# EAGLE library part TDA7269A (library joep-custom)
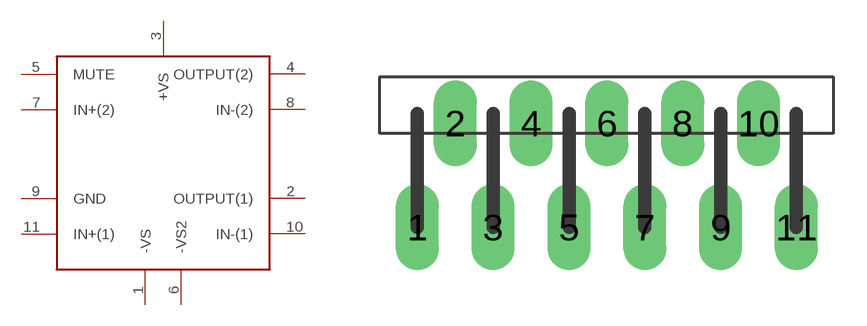
[diagram p6: symbol with the pads of MULTIWATT_11; footprint MULTIWATT_11]

Designator prefix -

## TDA7269A  [MULTIWATT_11]
1  -VS
2  OUTPUT(1)
3  +VS
4  OUTPUT(2)
5  MUTE
6  -VS2
7  IN+(2)
8  IN-(2)
9  GND
10  IN-(1)
11  IN+(1)

## Footprint MULTIWATT_11 (pad centres in mm)
drill 1 pad 1.93 long: 1 -8.5,-3.4; 2 -6.8,1.27; 3 -5.1,-3.4; 4 -3.4,1.27; 5 -1.7,-3.4; 6 0,1.27; 7 1.7,-3.4; 8 3.4,1.27; 9 5.1,-3.4; 10 6.8,1.27; 11 8.5,-3.4